# EAGLE library part 615008149521M (library Wurth_Elektronik_Electromechanic_Input-Output_Connectors_rev16b)
WR-MJ_Modular Jack_Tab UP_8P8C_MiddleAssembly 8P8C Tab UP_Middle Assembly Housing Code : Con_WR-MJ_Horizontal_Plastic_6150xx149521 <http://katalog.we-online.de/media/images/eican/Con_WR-MJ_Horizontal_Plastic_6150xx149521_pf2.jpg> Details see: http://katalog.we-online.de/en/em/615_0xx_149_521/615_008_149_521_M?m Created 2014-12-22, aslant tao 2014 (C) Würth Elektronik
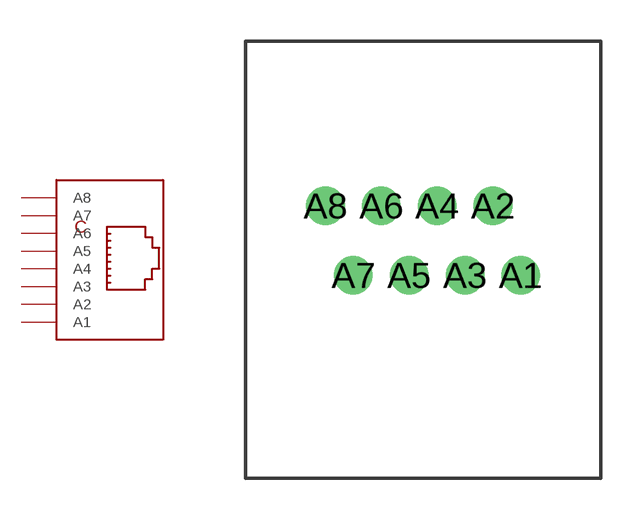
[diagram p170: symbol with the pads of 615008149521M; footprint 615008149521M]

Designator prefix J

## 615008149521M  [615008149521M]
A1  A1  pas
A2  A2  pas
A3  A3  pas
A4  A4  pas
A5  A5  pas
A6  A6  pas
A7  A7  pas
A8  A8  pas

## Footprint 615008149521M (pad centres in mm)
WR-MJ_Modular Jack_Tab UP_8P8C_MiddleAssembly 8P8C Tab UP_Middle Assembly Housing
drill 0.9: A1 3.57,-2.54; A2 2.55,0; A3 1.53,-2.54; A4 0.51,0; A5 -0.51,-2.54; A6 -1.53,0; A7 -2.55,-2.54; A8 -3.57,0